# Altium schematic symbol library фильтры.SchLib: 7 symbols
Pins are listed as number, name and electrical type; pins without a type are passive.

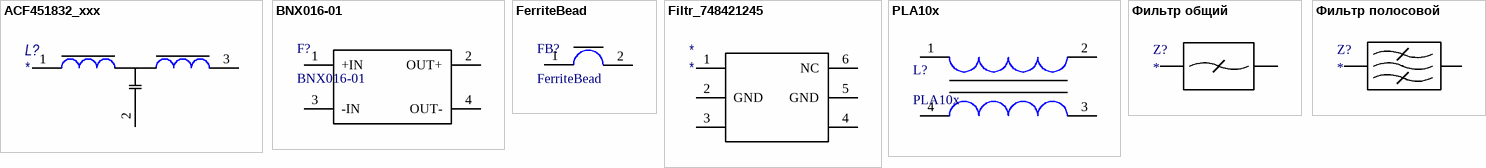
[diagram p0: symbols ACF451832_xxx to Фильтр полосовой]

## ACF451832_xxx
designator L?
pins: 1, 2, 3

## BNX016-01
designator F?
chipdip: 594347972
footprint BNX016-01
pins: 1 +IN, 2 OUT+, 3 -IN, 4 OUT-

## FerriteBead
designator FB?
chipdip: 93874935
pins: 1, 2

## Filtr_748421245
designator *
pins: 1, 2 GND, 3, 4, 5 GND, 6 NC

## PLA10x
designator L?
chipdip: 93874935
footprint PLA10x
footprint PCBComponent_1
pins: 1, 2, 3, 4

## Фильтр общий
designator Z?
pins: 1, 2

## Фильтр полосовой
designator Z?
pins: 1, 2